# Altium schematic symbol library J25MM.Schlib: 1 symbol
Pins are listed as number, name and electrical type; pins without a type are passive.

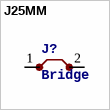
[diagram p0: symbol J25MM]

## J25MM
designator J?, comment Bridge
footprint 25
pins: 1, 2